# Altium schematic symbol library RES 495k 1_8W.Schlib: 1 symbol
Pins are listed as number, name and electrical type; pins without a type are passive.

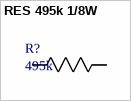
[diagram p0: symbol RES 495k 1/8W]

## RES 495k 1/8W
designator R?, comment 495k
RES SMD 499K OHM 1% 1/8W 0805
pins: 1 R1, 2 R2